# EAGLE library part LM3622 (library adafruit)
National LM3622 li-ion charger http://www.ladyada.net/library/eagle
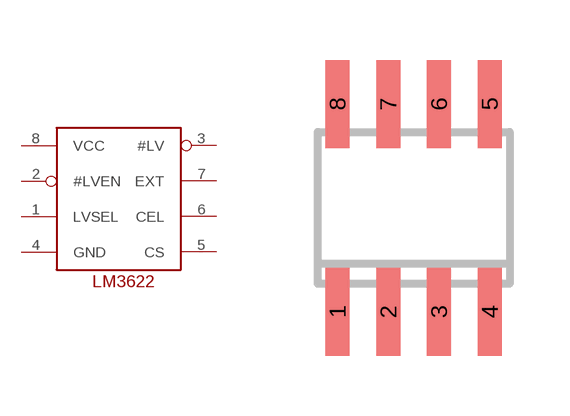
[diagram p0: symbol with the pads of SO08; footprint SO08]

Designator prefix -

## LM3622  [SO08]
1  LVSEL  in
2  #LVEN  in
3  #LV  out
4  GND  sup
5  CS  pas
6  CEL  pas
7  EXT  out
8  VCC  sup

## Footprint SO08 (pad centres in mm)
Small Outline Package 8 NS Package M08A
smd 0.6 x 2.2: 1 -1.905,-2.6; 2 -0.635,-2.6; 3 0.635,-2.6; 4 1.905,-2.6; 5 1.905,2.6; 6 0.635,2.6; 7 -0.635,2.6; 8 -1.905,2.6